# EAGLE library part MP9218 (library MP9218)
Designed by AKstudios github.com/akstudios
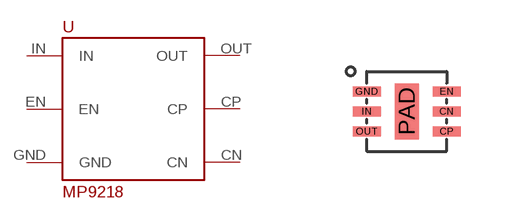
[diagram p0: symbol with the pads of TQFN-6; footprint TQFN-6]

Designator prefix -

## MP9218  [TQFN-6]
CN  CN
CP  CP
EN  EN
GND  GND
IN  IN
OUT  OUT

## Footprint TQFN-6 (pad centres in mm)
smd 0.7 x 0.25: CN 2,1; CP 2,0.5; EN 2,1.5; GND 0,1.5; IN 0,1; OUT 0,0.5
smd 0.6 x 1.4: PAD 1,1